# Altium footprint library Pot100k Footprint.PcbLib: 1 footprints
Each footprint in its own frame and in the unit in brackets; x right, y up, seen from the top. Pads: shape width x height; smd on the part's side, far side on the other; paste and mask are expansions set on the pad; w line width, h text height; cw(c..) or ccw(c..) is an arc to the next point about the centre after c.
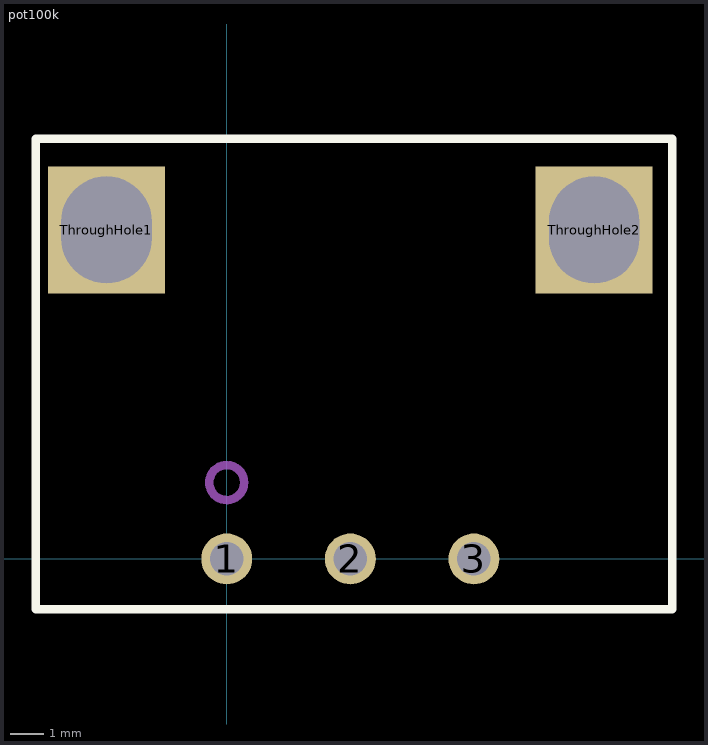
[diagram p0: the footprint, top view; thin cyan lines are the x and y axes]

## pot100k [mm]
pads (5):
  round 1.524 hole 1: 1(0,0) 2(3.7,0) 3(7.4,0)
  rect 3.5x3.8 hole 2.7 slot 3.2 at 90 deg: ThroughHole1(-3.6,9.85) ThroughHole2(11,9.85)
Top Overlay:
  lines w0.254: -5.715,-1.5 -5.715,12.573 13.335,12.573 13.335,-1.5 -5.715,-1.5
Mechanical 1:
  circle w0.254: c0,2.286 r0.524